# Altium schematic symbol library G2RL-2A-DC12.SchLib: 1 symbol
Pins are listed as number, name and electrical type; pins without a type are passive.

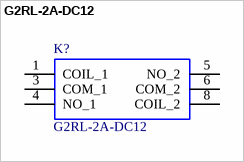
[diagram p0: symbol G2RL-2A-DC12]

## G2RL-2A-DC12
designator K?
General Purpose Relays DPST-NO 12VDC ClassF GP Type Flux; Manufacturer_Name: Omron Electronics; Geometry.Height: 15.7mm; Mouser Part Number: 653-G2RL-2A-DC12; Manufacturer_Part_Number: G2RL-2A-DC12; Datasheet Link: https://componentsearchengine.com/Datasheets/1/G2RL-2A-DC12.pdf
footprint G2RL2ADC12
pins: 1 COIL_1, 3 COM_1, 4 NO_1, 5 NO_2, 6 COM_2, 8 COIL_2